# EAGLE library part TE700 (library talema)
Talema/Amveco 7006X Series Transformers Toroidal Power Supply Transformer
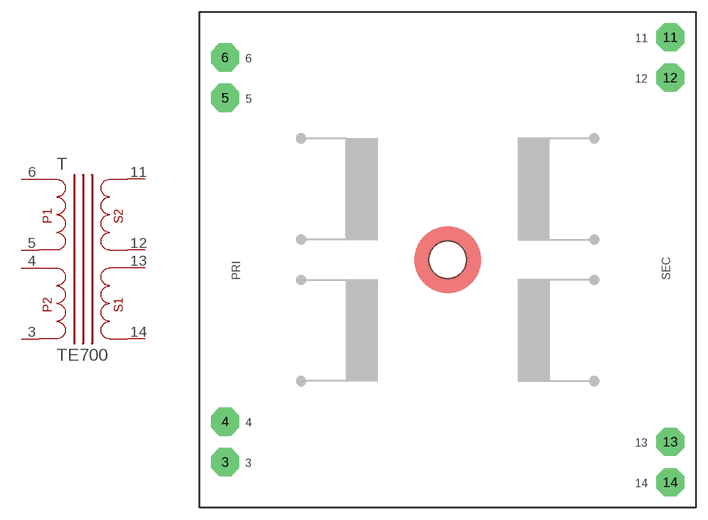
[diagram p0: symbol with the pads of 700XX; footprint 700XX]

Designator prefix T

## TE7006X  [700XX]
3  3  pas
4  4  pas
5  5  pas
6  6  pas
11  11  pas
12  12  pas
13  13  pas
14  14  pas

## TE7005X  [700XX]
Pads as for 700XX

## TE7002X  [700XX]
Pads as for 700XX

## TE7003X  [700XX]
Pads as for 700XX

## TE7004X  [700XX]
Pads as for 700XX

## TE7007X  [700XX]
Pads as for 700XX

## TE7008X  [700XX]
Pads as for 700XX

## Footprint 700XX (pad centres in mm)
TE700 Series Toroidal Supply Transformer
drill 1.27 pad 3.556 octagon: 3 -27.94,-25.4; 4 -27.94,-20.32; 5 -27.94,20.32; 6 -27.94,25.4; 11 27.94,27.94; 12 27.94,22.86; 13 27.94,-22.86; 14 27.94,-27.94
hole 4.699 at 0,0